# EAGLE library part OP113 (library opamp-analogdevices)
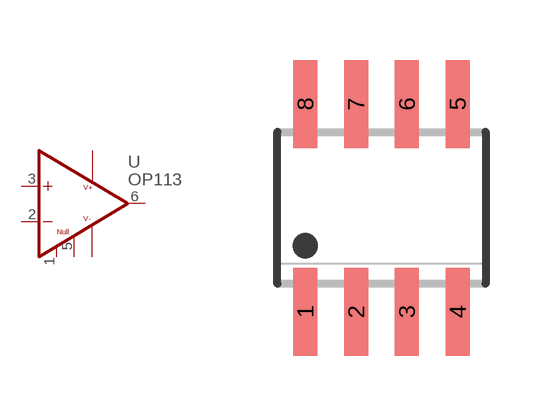
[diagram p0: symbol with the pads of SOIC8; footprint SOIC8]

Designator prefix -

## OP113  [SOIC8]
1  NULL1  in
2  -IN  in
3  +IN  in
4  V-
5  NULL2  in
6  OUT  out
7  V+

## Footprint SOIC8 (pad centres in mm)
smd 0.6 x 2.2: 1 -1.905,-2.6; 2 -0.635,-2.6; 3 0.635,-2.6; 4 1.905,-2.6; 5 1.905,2.6; 6 0.635,2.6; 7 -0.635,2.6; 8 -1.905,2.6